# Altium footprint library DM02-PCB封装（99SE格式）.PcbLib: 1 footprints
Each footprint in its own frame and in the unit in brackets; x right, y up, seen from the top. Pads: shape width x height; smd on the part's side, far side on the other; paste and mask are expansions set on the pad; w line width, h text height; cw(c..) or ccw(c..) is an arc to the next point about the centre after c.
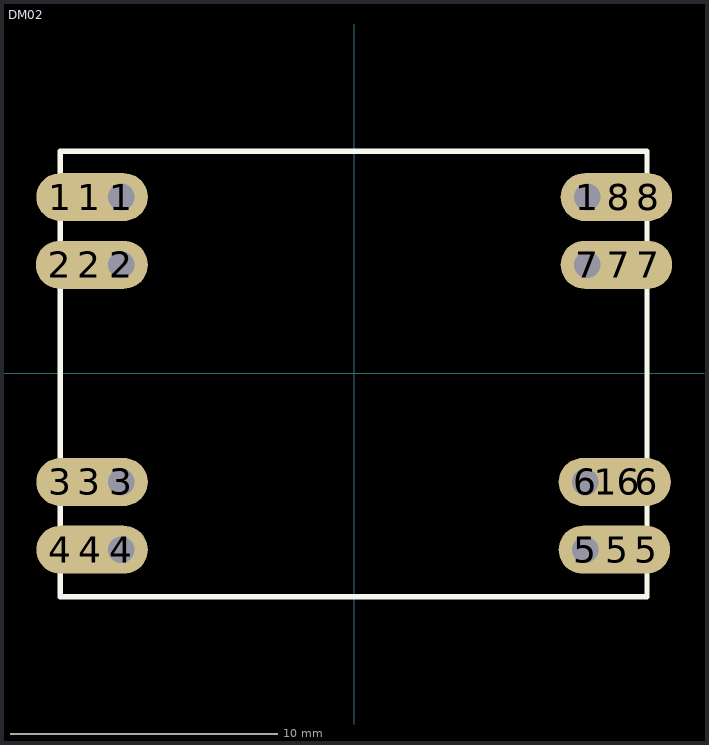
[diagram p0: the footprint, top view; thin cyan lines are the x and y axes]

## DM02 [mm] "U?"
pads (24):
  round 1.8 smd: 1(-11.014,6.613) 2(-11.033,4.073) 3(-11.014,-4.073) 4(-11.013,-6.613) 5(10.959,-6.613) 6(10.982,-4.073) 7(11.033,4.073) 8(11.033,6.613)
  rect 2.2x1.8 smd: 1(-9.923,6.613) 2(-9.923,4.073) 3(-9.922,-4.073) 4(-9.897,-6.613) 5(9.867,-6.613) 7(9.937,4.073) 8(9.937,6.613) 16(9.867,-4.073)
  oval 2x1.8 hole 1: 1(-8.732,6.613) 1(8.748,6.613) 2(-8.732,4.073) 3(-8.731,-4.073) 4(-8.731,-6.613) 5(8.678,-6.613) 6(8.678,-4.073) 7(8.748,4.073)
Top Layer:
  lines w0.4: 8.748,4.113 9.389,3.471
Top Overlay:
  lines w0.2: 10.983,8.327 -11.014,8.327 -11.014,-8.373 10.986,-8.373 10.986,8.327